# Altium footprint library IC.PcbLib: 83 footprints (part 5 of 6)
Each footprint in its own frame and in the unit in brackets; x right, y up, seen from the top. Pads: shape width x height; smd on the part's side, far side on the other; paste and mask are expansions set on the pad; w line width, h text height; cw(c..) or ccw(c..) is an arc to the next point about the centre after c.
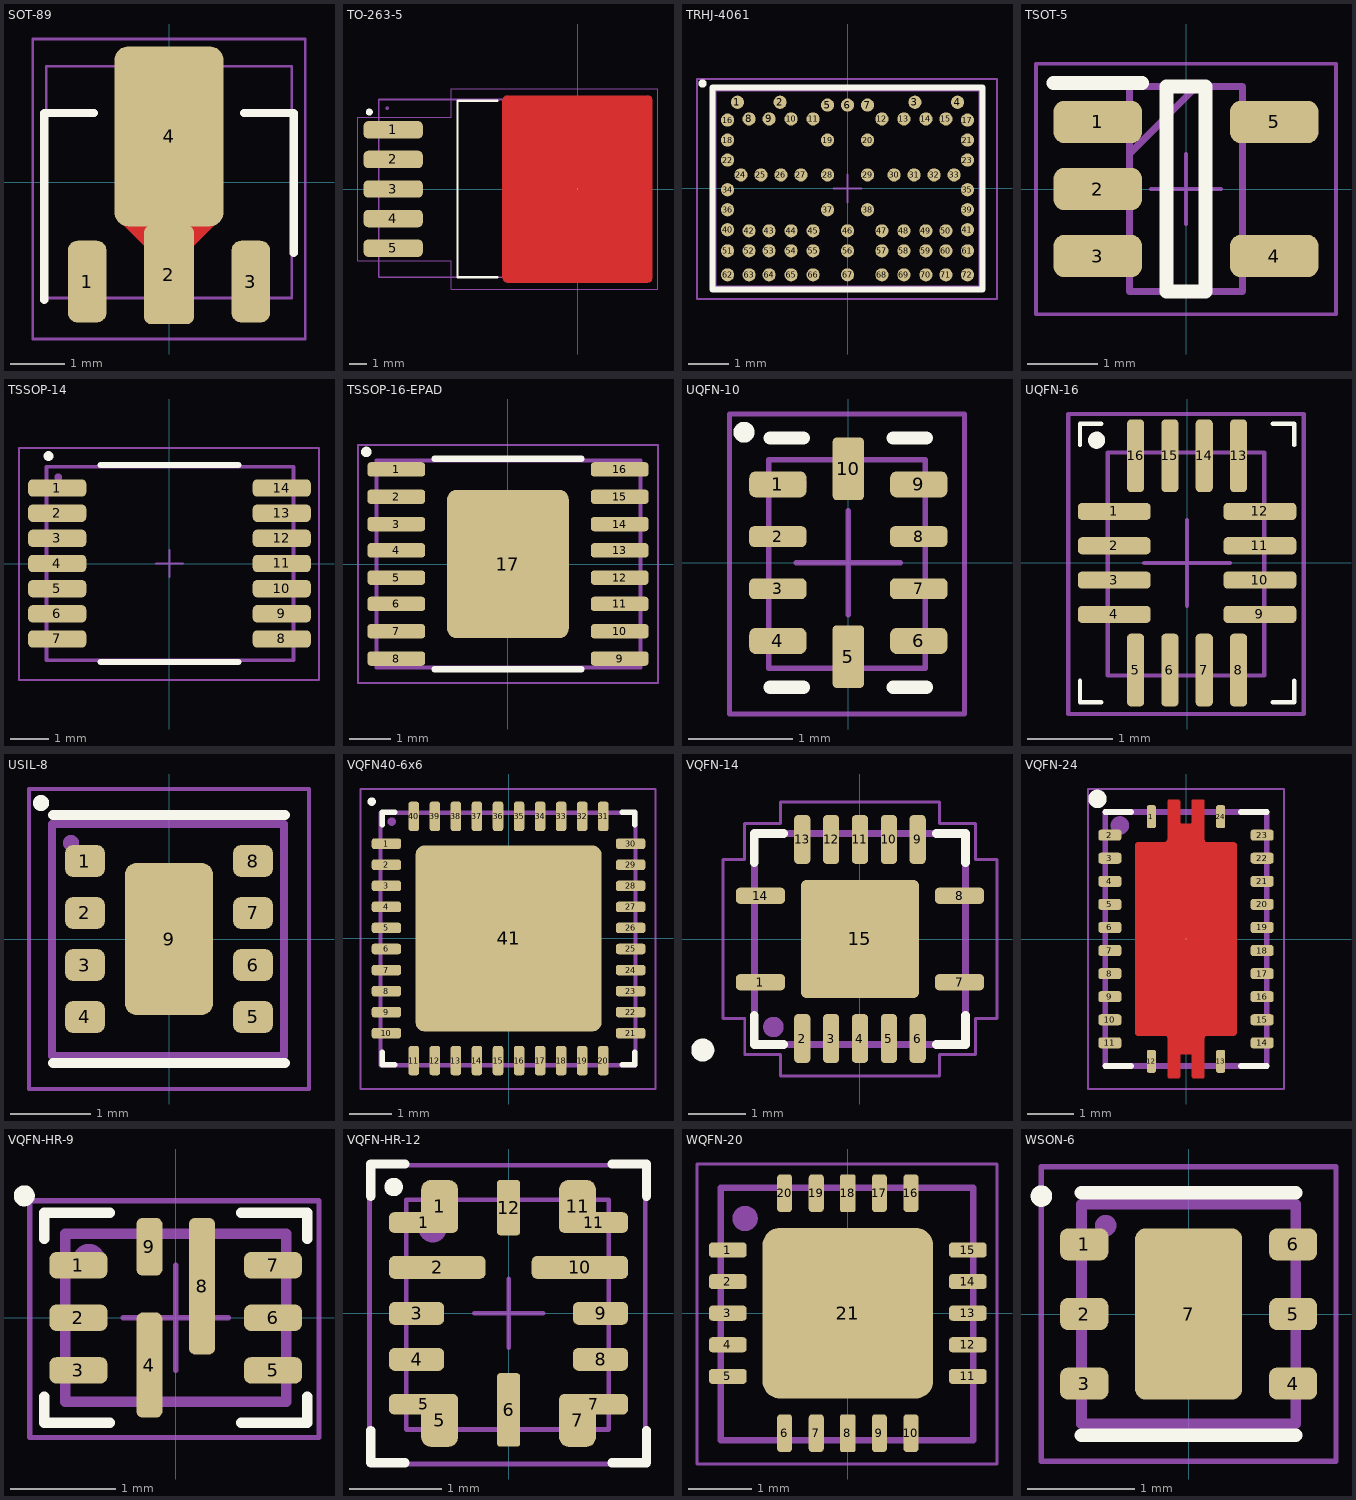
[diagram p4: the footprints below, top view; thin cyan lines are the x and y axes]

## SOT-89 [mm]
pads (4):
  rrect50% 0.71x1.5 smd: 1(-1.5,-1.822) 3(1.5,-1.822)
  rrect25% 0.91x1.8 smd: 2(0,-1.7)
  rrect25% 2x3.3 smd: 4(0,0.84)
Top Layer:
  region: 0,-1.625 0.312,-1.625 0.313,-1.305 0.931,-0.686 -0.931,-0.686 -0.313,-1.305 -0.312,-1.625
Top Overlay:
  lines w0.15: -2.286,-2.159 -2.286,1.27 -1.375,1.27 ; 1.375,1.27 2.286,1.27 2.286,-1.3
Top Assembly:
  lines w0.05: -2.25,-2.125 2.25,-2.125 2.25,2.125 -2.25,2.125 -2.25,-2.125
  text ".Designator" at -1.126,-0.113 h0.5
Top Courtyard:
  lines w0.05: -0.5,0 0.5,0 ; 0,-0.5 0,0.5 ; -2.5,-2.875 -2.5,2.625 2.5,2.625 2.5,-2.875 -2.5,-2.875
3D body "SOT-89.stp": height 1.6, standoff 0, extent -2.3,-2.125 2.3,2.125

## TO-263-5 [mm]
pads (6):
  rrect50% 3.4x1 smd: 1(-10.6,3.4) 2(-10.6,1.7) 3(-10.6,0) 4(-10.6,-1.7) 5(-10.6,-3.4)
  round 0.025 smd paste-2539.97: 6(0,0)
Top Layer:
  region: -4.3,-5.096 -4.3,5.096 -4.3,5.121 -4.29,5.17 -4.271,5.216 -4.243,5.258 -4.208,5.293 -4.166,5.321 -4.12,5.34 -4.071,5.35 -4.046,5.35 4.046,5.35 4.071,5.35 4.12,5.34 4.166,5.321 4.208,5.293 4.243,5.258 4.271,5.216 4.29,5.17 4.3,5.121 4.3,5.096 4.3,-5.096 4.3,-5.121 4.29,-5.17 4.271,-5.216 4.243,-5.258 4.208,-5.293 4.166,-5.321 4.12,-5.34 4.071,-5.35 4.046,-5.35 -4.046,-5.35 -4.071,-5.35 -4.12,-5.34 -4.166,-5.321 -4.208,-5.293 -4.243,-5.258 -4.271,-5.216 -4.29,-5.17 -4.3,-5.121
  lines w0.05: -4.3,-5.096 ccw(c-4.046,-5.096) -4.046,-5.35 4.046,-5.35 ccw(c4.046,-5.096) 4.3,-5.096 4.3,5.096 ccw(c4.046,5.096) 4.046,5.35 -4.046,5.35 ccw(c-4.046,5.096) -4.3,5.096 -4.3,-5.096
Top Overlay:
  circle w0.2: c-11.975,4.425 r0.1
  lines w0.127: -4.62,-5.08 -6.905,-5.08 -6.905,5.08 -4.62,5.08
Top Paste:
  rectangle: 2.425,1.325 4.175,3.075
  rectangle: -4.175,3.525 -2.425,5.275
  rectangle: -1.975,3.525 -0.225,5.275
  rectangle: 0.225,3.525 1.975,5.275
  rectangle: 2.425,3.525 4.175,5.275
  rectangle: 0.225,1.325 1.975,3.075
  rectangle: -1.975,1.325 -0.225,3.075
  rectangle: -4.175,1.325 -2.425,3.075
  rectangle: -4.175,-0.875 -2.425,0.875
  rectangle: -1.975,-0.875 -0.225,0.875
  rectangle: 0.225,-0.875 1.975,0.875
  rectangle: 2.425,-0.875 4.175,0.875
  rectangle: 2.425,-3.075 4.175,-1.325
  rectangle: 0.225,-3.075 1.975,-1.325
  rectangle: -1.975,-3.075 -0.225,-1.325
  rectangle: -4.175,-3.075 -2.425,-1.325
  rectangle: -4.175,-5.275 -2.425,-3.525
  rectangle: -1.975,-5.275 -0.225,-3.525
  rectangle: 0.225,-5.275 1.975,-3.525
  rectangle: 2.425,-5.275 4.175,-3.525
Top Assembly:
  circle w0.1: c-10.95,4.65 r0.05
  lines w0.1: -11.425,-5.075 3.8,-5.075 3.8,5.15 -11.425,5.15 -11.425,-5.075
  text ".Designator" at -1.126,-0.113 h0.5
Top Courtyard:
  lines w0.05: -0.349,0 0.001,0 0.001,0.35 ; 0,-0.345 0,0.005 ; 0,0 0.35,0 ; -12.625,-4.125 -12.625,4.125 -7.25,4.125 -7.25,5.75 4.625,5.75 4.625,-5.75 -7.25,-5.75 -7.25,-4.125 -12.625,-4.125
3D body "TO263-5EV-VREG.STEP": height 4.83, standoff -0.25, extent -11.42,-5.08 3.49,5.08

## TRHJ-4061 [mm]
pads (72):
  round 0.33 smd: 1(-2.75,2.156) 2(-1.686,2.156) 3(1.686,2.156) 4(2.75,2.156) 5(-0.5,2.084) 6(0,2.084) 7(0.5,2.084) 8(-2.461,1.738) 9(-1.96,1.738) 10(-1.411,1.738) 11(-0.861,1.738) 12(0.861,1.738) 13(1.411,1.738) 14(1.961,1.738) 15(2.461,1.738) 16(-2.999,1.711) 17(2.999,1.711) 18(-2.999,1.211) 19(-0.5,1.211) 20(0.5,1.211) 21(2.999,1.211) 22(-2.999,0.711) 23(2.999,0.711) 24(-2.664,0.34) 25(-2.164,0.34) 26(-1.664,0.34) 27(-1.164,0.34) 28(-0.5,0.34) 29(0.5,0.34) 30(1.164,0.34) 31(1.664,0.34) 32(2.164,0.34) 33(2.664,0.34) 34(-2.999,-0.031) 35(2.999,-0.031) 36(-2.999,-0.531) 37(-0.5,-0.531) 38(0.5,-0.531) 39(2.999,-0.531) 40(-2.999,-1.031) 41(2.999,-1.031) 42(-2.461,-1.059) 43(-1.96,-1.059) 44(-1.411,-1.059) 45(-0.861,-1.059) 46(0,-1.059) 47(0.861,-1.059) 48(1.411,-1.059) 49(1.961,-1.059) 50(2.461,-1.059) 51(-2.999,-1.559) 52(-2.461,-1.559) 53(-1.961,-1.559) 54(-1.411,-1.559) 55(-0.861,-1.559) 56(0,-1.559) 57(0.861,-1.559) 58(1.411,-1.559) 59(1.961,-1.559) 60(2.461,-1.559) 61(2.999,-1.559) 62(-2.999,-2.159) 63(-2.461,-2.159) 64(-1.961,-2.159) 65(-1.411,-2.159) 66(-0.861,-2.159) 67(0,-2.159) 68(0.861,-2.159) 69(1.411,-2.159) 70(1.961,-2.159) 71(2.461,-2.159) 72(2.999,-2.159)
Top Overlay:
  circle w0.1: c-3.625,2.625 r0.05
  lines w0.15: -3.375,-2.525 3.375,-2.525 3.375,2.525 -3.375,2.525 -3.375,-2.525
Top Assembly:
  lines w0.1: -3.325,-2.475 -3.325,2.475 3.325,2.475 3.325,-2.475 -3.325,-2.475
  text ".Designator" at -1.126,-0.113 h0.5
Top Courtyard:
  lines w0.05: -0.349,0 0.001,0 0.001,0.35 ; 0,-0.345 0,0.005 ; 0,0 0.35,0 ; -3.763,-2.763 3.737,-2.763 3.737,2.737 -3.763,2.737 -3.763,-2.763
3D body: height 0.8, standoff 0, extent -3.325,-2.475 3.325,2.475

## TSOT-5 [mm]
pads (5):
  rrect50% 1.25x0.6 smd: 1(-1.25,0.95) 2(-1.25,0) 3(-1.25,-0.95) 4(1.25,-0.95) 5(1.25,0.95)
Top Overlay:
  lines w0.2: -1.875,1.5 -0.625,1.5 ; -0.275,-1.45 0.275,-1.45 0.275,1.45 -0.275,1.45 -0.275,-1.45
Top Assembly:
  lines w0.1: -0.8,0.5 0.15,1.45 ; -0.8,-1.45 0.8,-1.45 0.8,1.45 -0.8,1.45 -0.8,-1.45
  text ".Designator" at -2.252,-0.226 h1
Top Courtyard:
  lines w0.05: 0.5,0 0,0 ; 0,0 0,0.5 0,0 ; 0,0 -0.5,0 0,0 ; 0,0 0,-0.5 0,0 ; -2.125,-1.775 2.125,-1.775 2.125,1.775 -2.125,1.775 -2.125,-1.775
3D body "ADP7142AUJZ-R2.stp": height 1, standoff 0, extent -1.4,-1.45 1.4,1.45

## TSSOP-14 [mm]
pads (14):
  rrect50% 1.5x0.45 smd: 1(-2.9,1.95) 2(-2.9,1.3) 3(-2.9,0.65) 4(-2.9,0) 5(-2.9,-0.65) 6(-2.9,-1.3) 7(-2.9,-1.95) 8(2.9,-1.95) 9(2.9,-1.3) 10(2.9,-0.65) 11(2.9,0) 12(2.9,0.65) 13(2.9,1.3) 14(2.9,1.95)
Top Overlay:
  lines w0.152: -3.076,2.765 cw(c-3.125,2.775) -3.076,2.767 ; -1.778,-2.54 1.778,-2.54 ; -1.778,2.54 -0.305,2.54 0.305,2.54 1.778,2.54
Top Assembly:
  circle w0.1: c-2.875,2.225 r0.05
  lines w0.1: -3.175,-2.5 -3.175,2.5 3.2,2.5 3.2,-2.5 -3.175,-2.5
  text ".Designator" at -1.126,-0.113 h0.5
Top Courtyard:
  lines w0.05: -0.349,0 0.001,0 0.001,0.35 ; 0,-0.345 0,0.005 ; 0,0 0.35,0 ; -3.888,-3.013 3.862,-3.013 3.862,2.987 -3.888,2.987 -3.888,-3.013
3D body "SN74ACT17PWRQ1.stp": height 1, standoff 0, extent -3.2,-2.5 3.2,2.5

## TSSOP-16-EPAD [mm]
pads (17):
  rrect50% 1.4x0.35 smd: 1(-2.7,2.286) 2(-2.7,1.626) 3(-2.7,0.965) 4(-2.7,0.33) 5(-2.7,-0.33) 6(-2.7,-0.965) 7(-2.7,-1.626) 8(-2.7,-2.286) 9(2.7,-2.286) 10(2.7,-1.626) 11(2.7,-0.965) 12(2.7,-0.33) 13(2.7,0.33) 14(2.7,0.965) 15(2.7,1.626) 16(2.7,2.286)
  rrect15% 2.94x3.58 smd: 17(0,0)
Top Overlay:
  lines w0.152: -3.375,2.698 cw(c-3.424,2.708) -3.375,2.7 ; -1.778,-2.54 1.778,-2.54 ; -1.778,2.54 -0.305,2.54 0.305,2.54 1.778,2.54
Top Assembly:
  circle w0.1: c-2.875,2.225 r0.05
  lines w0.1: -3.175,-2.5 3.2,-2.5 3.2,2.5 -3.175,2.5 -3.175,-2.5
  text ".Designator" at -1.126,-0.113 h0.5
Top Courtyard:
  lines w0.05: -0.349,0 0.001,0 0.001,0.35 ; 0,-0.345 0,0.005 ; 0,0 0.35,0 ; -3.625,-2.875 3.625,-2.875 3.625,2.875 -3.625,2.875 -3.625,-2.875
3D body "74LVC163PW_TSSOP16.STEP": height 0.87, standoff -0.23, extent -3.203,-2.5 3.203,2.5

## UQFN-10 [mm]
pads (10):
  rrect50% 0.55x0.25 smd: 1(-0.675,0.75) 4(-0.675,-0.75) 6(0.675,-0.75) 9(0.675,0.75)
  rrect50% 0.55x0.2 smd: 2(-0.675,0.25) 3(-0.675,-0.25) 7(0.675,-0.25) 8(0.675,0.25)
  rrect25% 0.3x0.6 smd: 5(0,-0.9) 10(0,0.9)
Top Overlay:
  circle w0.1: c-1,1.25 r0.05
  lines w0.127: -0.75,-1.195 -0.43,-1.195 ; -0.75,1.195 -0.43,1.195 ; 0.43,-1.195 0.75,-1.195 ; 0.43,1.195 0.75,1.195
Top Assembly:
  circle w0.1: c-0.5,0.75 r0.05
  lines w0.05: -0.763,-1.013 0.737,-1.013 0.737,0.987 -0.763,0.987 -0.763,-1.013
  text ".Designator" at -1.126,-0.113 h0.5
Top Courtyard:
  lines w0.05: -0.5,0 0,0 ; 0,-0.5 0,0 ; 0,0.5 0,0 ; 0.5,0 0,0 ; -1.138,-1.45 1.112,-1.45 1.112,1.425 -1.138,1.425 -1.138,-1.45
3D body "step_temp.STEP": height 0.6, standoff 0, extent -0.75,-1 0.75,1

## UQFN-16 [mm]
pads (16):
  rrect50% 0.85x0.2 smd: 1(-0.85,0.6) 2(-0.85,0.2) 3(-0.85,-0.2) 4(-0.85,-0.6) 9(0.85,-0.6) 10(0.85,-0.2) 11(0.85,0.2) 12(0.85,0.6)
  rrect50% 0.2x0.85 smd: 5(-0.6,-1.25) 6(-0.2,-1.25) 7(0.2,-1.25) 8(0.6,-1.25) 13(0.6,1.25) 14(0.2,1.25) 15(-0.2,1.25) 16(-0.6,1.25)
Top Overlay:
  circle w0.1: c-1.056,1.431 r0.05
  lines w0.05: -1.25,-1.375 -1.25,-1.625 -1,-1.625 ; -1.25,1.375 -1.25,1.625 -1,1.625 ; 1,-1.625 1.25,-1.625 1.25,-1.375 ; 1,1.625 1.25,1.625 1.25,1.375
Top Assembly:
  circle w0.1: c-0.625,1 r0.025
  lines w0.05: -0.925,-1.313 0.9,-1.313 0.9,1.287 -0.925,1.287 -0.925,-1.313
  text ".Designator" at -1.578,-0.158 h0.7
Top Courtyard:
  lines w0.05: -0.5,0 0,0 ; 0,-0.5 0,0 ; 0,0.5 0,0 ; 0.5,0 0,0 ; -1.388,-1.763 1.362,-1.763 1.362,1.737 -1.388,1.737 -1.388,-1.763
3D body "SN74AXC4T774RSVR.stp": height 0.55, standoff 0, extent -0.9,-1.3 0.9,1.3

## USIL-8 [mm]
height 1.53
pads (9):
  rrect50% 0.5x0.4 smd: 1(-1.05,0.975) 2(-1.05,0.325) 3(-1.05,-0.325) 4(-1.05,-0.975) 5(1.05,-0.975) 6(1.05,-0.325) 7(1.05,0.325) 8(1.05,0.975)
  rrect25% 1.1x1.9 smd: 9(0,0)
Top Overlay:
  circle w0.1: c-1.6,1.7 r0.05
  lines w0.127: -1.45,-1.55 1.45,-1.55 ; -1.45,1.55 1.45,1.55
Top Assembly:
  circle w0.1: c-1.225,1.2 r0.05
  lines w0.1: -1.463,-1.463 1.437,-1.463 1.437,1.437 -1.463,1.437 -1.463,-1.463
  text ".Designator" at -1.126,-0.113 h0.5
Top Courtyard:
  lines w0.05: -0.349,0 0.001,0 0.001,0.35 ; 0,-0.345 0,0.005 ; 0,0 0.35,0 ; -1.75,-1.875 -1.75,1.875 1.75,1.875 1.75,-1.875 -1.75,-1.875
3D body "step_temp.STEP": height 1.53, standoff 0, extent -1.4,-1.5 1.4,1.5

## VQFN40-6x6 [mm]
pads (41):
  rrect50% 0.7x0.25 smd: 1(-2.9,2.25) 2(-2.9,1.75) 3(-2.9,1.25) 4(-2.9,0.75) 5(-2.9,0.25) 6(-2.9,-0.25) 7(-2.9,-0.75) 8(-2.9,-1.25) 9(-2.9,-1.75) 10(-2.9,-2.25) 21(2.9,-2.25) 22(2.9,-1.75) 23(2.9,-1.25) 24(2.9,-0.75) 25(2.9,-0.25) 26(2.9,0.25) 27(2.9,0.75) 28(2.9,1.25) 29(2.9,1.75) 30(2.9,2.25)
  rrect50% 0.25x0.7 smd: 11(-2.25,-2.9) 12(-1.75,-2.9) 13(-1.25,-2.9) 14(-0.75,-2.9) 15(-0.25,-2.9) 16(0.25,-2.9) 17(0.75,-2.9) 18(1.25,-2.9) 19(1.75,-2.9) 20(2.25,-2.9) 31(2.25,2.9) 32(1.75,2.9) 33(1.25,2.9) 34(0.75,2.9) 35(0.25,2.9) 36(-0.25,2.9) 37(-0.75,2.9) 38(-1.25,2.9) 39(-1.75,2.9) 40(-2.25,2.9)
  rrect10% 4.42x4.42 smd: 41(0,0)
Top Overlay:
  circle w0.1: c-3.25,3.25 r0.05
  lines w0.127: -3,-2.7 -3,-3 -2.7,-3 ; -3,2.7 -3,3 -2.7,3 ; 2.7,-3 3,-3 3,-2.7 ; 2.7,3 3,3 3,2.7
Top Assembly:
  circle w0.1: c-2.775,2.775 r0.05
  lines w0.1: -3.038,-3.013 3.012,-3.013 3.012,2.987 -3.038,2.987 -3.038,-3.013
  text ".Designator" at -1.126,-0.113 h0.5
Top Courtyard:
  lines w0.05: -0.349,0 0.001,0 0.001,0.35 ; 0,-0.345 0,0.005 ; 0,0 0.35,0 ; -3.513,-3.575 3.487,-3.575 3.487,3.55 -3.513,3.55 -3.513,-3.575
3D body "step_temp.STEP": height 1, standoff 0, extent -3,-3 3,3

## VQFN-14 [mm]
pads (15):
  rrect50% 0.85x0.28 smd: 1(-1.725,-0.75) 7(1.725,-0.75) 8(1.725,0.75) 14(-1.725,0.75)
  rrect50% 0.28x0.85 smd: 2(-1,-1.725) 3(-0.5,-1.725) 4(0,-1.725) 5(0.5,-1.725) 6(1,-1.725) 9(1,1.725) 10(0.5,1.725) 11(0,1.725) 12(-0.5,1.725) 13(-1,1.725)
  rrect10% 2.05x2.05 smd: 15(0,0)
Top Overlay:
  circle w0.2: c-2.725,-1.925 r0.1
  lines w0.15: -1.83,-1.32 -1.83,-1.83 -1.32,-1.83 ; -1.83,1.32 -1.83,1.83 -1.32,1.83 ; 1.32,-1.83 1.83,-1.83 1.83,-1.32 ; 1.32,1.83 1.83,1.83 1.83,1.32
Top Assembly:
  circle w0.254: c-1.5,-1.525 r0.05
  lines w0.12: -1.83,-1.83 -1.83,1.83 1.83,1.83 1.83,-1.83 -1.83,-1.83
  text ".Designator" at -2.704,-0.271 h1.2
Top Courtyard:
  lines w0.05: -0.35,0 0.35,0 ; 0,-0.35 0,0.35 ; -2.375,-1.375 -2.375,1.375 -2,1.375 -2,2 -1.375,2 -1.375,2.375 1.375,2.375 1.375,2 2,2 2,1.375 2.375,1.375 2.375,-1.375 2,-1.375 2,-2 1.38,-2 1.38,-2.375 -1.375,-2.375 -1.375,-2 -1.997,-2 -1.997,-1.375 -2.375,-1.375
3D body "QFN21P50_350X350X100L40X24T205.STEP": height 1, standoff 0, extent -1.8,-1.8 1.8,1.8

## VQFN-24 [mm]
pads (25):
  rrect50% 0.2x0.5 smd: 1(-0.75,2.65) 12(-0.75,-2.65) 13(0.75,-2.65) 24(0.75,2.65)
  rrect50% 0.5x0.24 smd: 2(-1.65,2.25) 3(-1.65,1.75) 4(-1.65,1.25) 5(-1.65,0.75) 6(-1.65,0.25) 7(-1.65,-0.25) 8(-1.65,-0.75) 9(-1.65,-1.25) 10(-1.65,-1.75) 11(-1.65,-2.25) 14(1.65,-2.25) 15(1.65,-1.75) 16(1.65,-1.25) 17(1.65,-0.75) 18(1.65,-0.25) 19(1.65,0.25) 20(1.65,0.75) 21(1.65,1.25) 22(1.65,1.75) 23(1.65,2.25)
  round 0.025 smd paste+0: 25(0,0)
Top Layer:
  region: -0.4,-2.968 -0.4,-2.978 -0.392,-2.997 -0.378,-3.012 -0.359,-3.02 -0.349,-3.02 -0.17,-3.02 -0.161,-3.02 -0.145,-3.013 -0.132,-3.001 -0.125,-2.984 -0.125,-2.975 -0.125,-2.525 -0.124,-2.519 -0.12,-2.508 -0.112,-2.5 -0.101,-2.496 -0.095,-2.495 0.095,-2.495 0.101,-2.496 0.112,-2.5 0.12,-2.508 0.124,-2.519 0.125,-2.525 0.125,-2.975 0.125,-2.984 0.132,-3 0.145,-3.013 0.161,-3.02 0.17,-3.02 0.355,-3.02 0.364,-3.02 0.38,-3.013 0.393,-3 0.4,-2.984 0.4,-2.975 0.4,-2.15 0.401,-2.139 0.409,-2.119 0.424,-2.104 0.444,-2.096 0.455,-2.095 1.03,-2.095 1.043,-2.095 1.067,-2.085 1.085,-2.067 1.095,-2.043 1.095,-2.03 1.095,2.037 1.095,2.048 1.086,2.07 1.069,2.086 1.048,2.095 1.036,2.095 0.45,2.095 0.44,2.096 0.422,2.103 0.408,2.117 0.401,2.135 0.4,2.145 0.4,2.991 0.4,2.997 0.396,3.007 0.387,3.016 0.377,3.02 0.371,3.02 0.156,3.02 0.15,3.02 0.138,3.015 0.13,3.007 0.125,2.996 0.125,2.99 0.125,2.534 0.124,2.526 0.118,2.512 0.108,2.501 0.094,2.496 0.086,2.495 -0.089,2.495 -0.096,2.496 -0.109,2.501 -0.119,2.511 -0.124,2.524 -0.125,2.531 -0.125,2.97 -0.125,2.98 -0.133,2.998 -0.147,3.012 -0.165,3.02 -0.175,3.02 -0.356,3.02 -0.365,3.02 -0.381,3.013 -0.393,3.001 -0.4,2.985 -0.4,2.976 -0.4,2.169 -0.401,2.155 -0.413,2.128 -0.433,2.107 -0.46,2.096 -0.475,2.095 -1.048,2.095 -1.057,2.095 -1.075,2.088 -1.088,2.075 -1.095,2.057 -1.095,2.048 -1.095,-2.048 -1.095,-2.057 -1.088,-2.075 -1.075,-2.088 -1.058,-2.095 -1.049,-2.095 -0.447,-2.095 -0.438,-2.096 -0.421,-2.103 -0.408,-2.116 -0.401,-2.133 -0.4,-2.142
Top Overlay:
  circle w0.2: c-1.918,3.036 r0.1
  lines w0.127: -1.75,-2.75 -1.19,-2.75 ; -1.75,2.75 -1.19,2.75 ; 1.19,-2.75 1.75,-2.75 ; 1.19,2.75 1.75,2.75
Top Assembly:
  circle w0.2: c-1.432,2.46 r0.1
  lines w0.127: -1.75,-2.75 1.75,-2.75 1.75,2.75 -1.75,2.75 -1.75,-2.75
  text ".Designator" at -2.704,-0.271 h1.2
Top Courtyard:
  lines w0.05: -0.475,0 0,0 ; 0,-0.475 0,0 ; 0,0.475 0,0 ; 0.475,0 0,0 ; -2.125,-3.25 2.125,-3.25 2.125,3.25 -2.125,3.25 -2.125,-3.25
3D body "step_temp.STEP": height 1, standoff 0, extent -1.75,-2.75 1.75,2.75

## VQFN-HR-9 [mm]
pads (9):
  rrect50% 0.55x0.25 smd: 1(-0.925,0.5) 2(-0.925,0) 3(-0.925,-0.5) 5(0.925,-0.5) 6(0.925,0) 7(0.925,0.5)
  rrect50% 0.25x1 smd: 4(-0.25,-0.45)
  rrect50% 0.25x1.3 smd: 8(0.25,0.3)
  rrect50% 0.25x0.55 smd: 9(-0.25,0.675)
Top Overlay:
  circle w0.1: c-1.44,1.159 r0.05
  lines w0.1: -1.25,-0.75 -1.25,-1 -0.625,-1 ; -1.25,0.75 -1.25,1 -0.625,1 ; 0.625,-1 1.25,-1 1.25,-0.75 ; 0.625,1 1.25,1 1.25,0.75
Top Assembly:
  circle w0.254: c-0.825,0.55 r0.025
  lines w0.1: -1.05,-0.8 -1.05,0.8 1.05,0.8 1.05,-0.8 -1.05,-0.8
  text ".Designator" at -0.674,-0.068 h0.3
Top Courtyard:
  lines w0.05: -0.5,0 0.5,0 ; 0,-0.5 0,0.5 ; -1.388,-1.138 1.362,-1.138 1.362,1.112 -1.388,1.112 -1.388,-1.138
3D body "PQFN50P200X150X100_HS-7N.step": height 1, standoff 0, extent -1.05,-0.8 1.05,0.8

## VQFN-HR-12 [mm]
pads (16):
  rrect50% 0.75x0.225 smd: 1(-0.925,0.988) 5(-0.925,-0.988) 7(0.925,-0.988) 11(0.925,0.988)
  rrect50% 0.4x0.575 smd: 1(-0.75,1.163) 5(-0.75,-1.163) 7(0.75,-1.163) 11(0.75,1.163)
  rrect50% 1.05x0.25 smd: 2(-0.775,0.5) 10(0.775,0.5)
  rrect50% 0.6x0.25 smd: 3(-1,0) 4(-1,-0.5) 8(1,-0.5) 9(1,0)
  rrect25% 0.25x0.8 smd: 6(0,-1.05)
  rrect25% 0.25x0.6 smd: 12(0,1.15)
Top Overlay:
  circle w0.1: c-1.25,1.375 r0.05
  lines w0.1: -1.5,-1.275 -1.5,-1.625 -1.125,-1.625 ; -1.5,1.275 -1.5,1.625 -1.125,1.625 ; 1.125,-1.625 1.5,-1.625 1.5,-1.275 ; 1.125,1.625 1.5,1.625 1.5,1.275
Top Assembly:
  circle w0.254: c-0.825,0.925 r0.025
  lines w0.05: -1.113,-1.263 1.087,-1.263 1.087,1.237 -1.113,1.237 -1.113,-1.263
  text ".Designator" at -0.674,-0.068 h0.3
Top Courtyard:
  lines w0.05: -0.375,0 0,0 ; 0,-0.375 0,0 ; 0,0.375 0,0 ; 0.375,0 0,0 ; -1.513,-1.638 1.487,-1.638 1.487,1.612 -1.513,1.612 -1.513,-1.638
3D body "RPS0012A.stp": height 1, standoff 0, extent -1.1,-1.25 1.1,1.25

## WQFN-20 [mm]
pads (21):
  rrect50% 0.6x0.24 smd: 1(-1.9,1) 2(-1.9,0.5) 3(-1.9,0) 4(-1.9,-0.5) 5(-1.9,-1) 11(1.9,-1) 12(1.9,-0.5) 13(1.9,0) 14(1.9,0.5) 15(1.9,1)
  rrect50% 0.24x0.6 smd: 6(-1,-1.9) 7(-0.5,-1.9) 9(0.5,-1.9) 10(1,-1.9) 16(1,1.9) 17(0.5,1.9) 19(-0.5,1.9) 20(-1,1.9)
  rrect25% 0.24x0.6 smd: 8(0,-1.9) 18(0,1.9)
  rrect20% 2.7x2.7 smd: 21(0,0)
Top Assembly:
  circle w0.2: c-1.625,1.5 r0.1
  lines w0.1: -2.013,-2.013 1.987,-2.013 1.987,1.987 -2.013,1.987 -2.013,-2.013
  text ".Designator" at -3.378,-0.339 h1.5
Top Courtyard:
  lines w0.05: -0.5,0 0,0 ; 0,-0.5 0,0 ; 0,0.5 0,0 ; 0.5,0 0,0 ; -2.388,-2.388 2.362,-2.388 2.362,2.362 -2.388,2.362 -2.388,-2.388
3D body "TPS7A8801RTJT.STEP": height 0.8, standoff 0, extent -2,-2 2,2

## WSON-6 [mm]
pads (7):
  rrect50% 0.45x0.3 smd: 1(-0.975,0.65) 2(-0.975,0) 3(-0.975,-0.65) 4(0.975,-0.65) 5(0.975,0) 6(0.975,0.65)
  rrect20% 1x1.6 smd: 7(0,0)
Top Overlay:
  circle w0.1: c-1.375,1.1 r0.05
  lines w0.127: -1,-1.13 1,-1.13 ; -1,1.13 1,1.13
Top Assembly:
  circle w0.1: c-0.775,0.825 r0.05
  lines w0.1: -1,-1.025 1,-1.025 1,1.025 -1,1.025 -1,-1.025
  text ".Designator" at -1.126,-0.113 h0.5
Top Courtyard:
  lines w0.05: -0.349,0 0.001,0 0.001,0.35 ; 0,-0.345 0,0.005 ; 0,0 0.35,0 ; -1.375,-1.375 1.375,-1.375 1.375,1.375 -1.375,1.375 -1.375,-1.375
3D body "step_temp.STEP": height 0.8, standoff 0, extent -1,-1 1,1